# Altium schematic symbol library SCH-DIODES-ON SEMICONDUCTOR BAS40-04LT1G.SchLib: 1 symbol
Pins are listed as number, name and electrical type; pins without a type are passive.

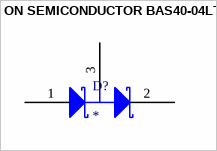
[diagram p0: symbol ON SEMICONDUCTOR BAS40-04LT1G]

## ON SEMICONDUCTOR BAS40-04LT1G
designator D?
pins: 1 A, 2 C, 3 AC